# EAGLE library part LM358AM (library Fairchild_By_element14_Batch_1)
Dual Operational Amplifier
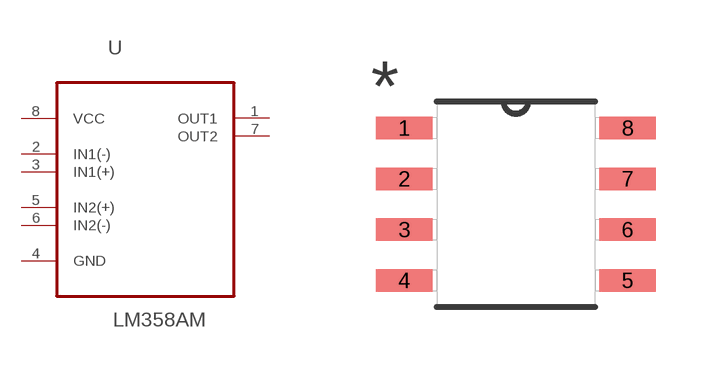
[diagram p213: symbol with the pads of SOP127P600X180-8N; footprint SOP127P600X180-8N]

Designator prefix U

## LM358AM (MPN: LM358AM; OC_FARNELL: -; OC_NEWARK: 78K6006; PACKAGE: SOP-8; SUPPLIER: FAIRCHILD SEMICONDUCTOR)  [SOP127P600X180-8N]
1  OUT1  out
2  IN1(-)  in
3  IN1(+)  in
4  GND  pas
5  IN2(+)  in
6  IN2(-)  in
7  OUT2  out
8  VCC  pwr

## Footprint SOP127P600X180-8N (pad centres in mm)
smd 1.422 x 0.559: 1 -2.794,1.905; 2 -2.794,0.635; 3 -2.794,-0.635; 4 -2.794,-1.905; 5 2.794,-1.905; 6 2.794,-0.635; 7 2.794,0.635; 8 2.794,1.905